# Altium schematic symbol library power_chip.SchLib: 8 symbols
Pins are listed as number, name and electrical type; pins without a type are passive.

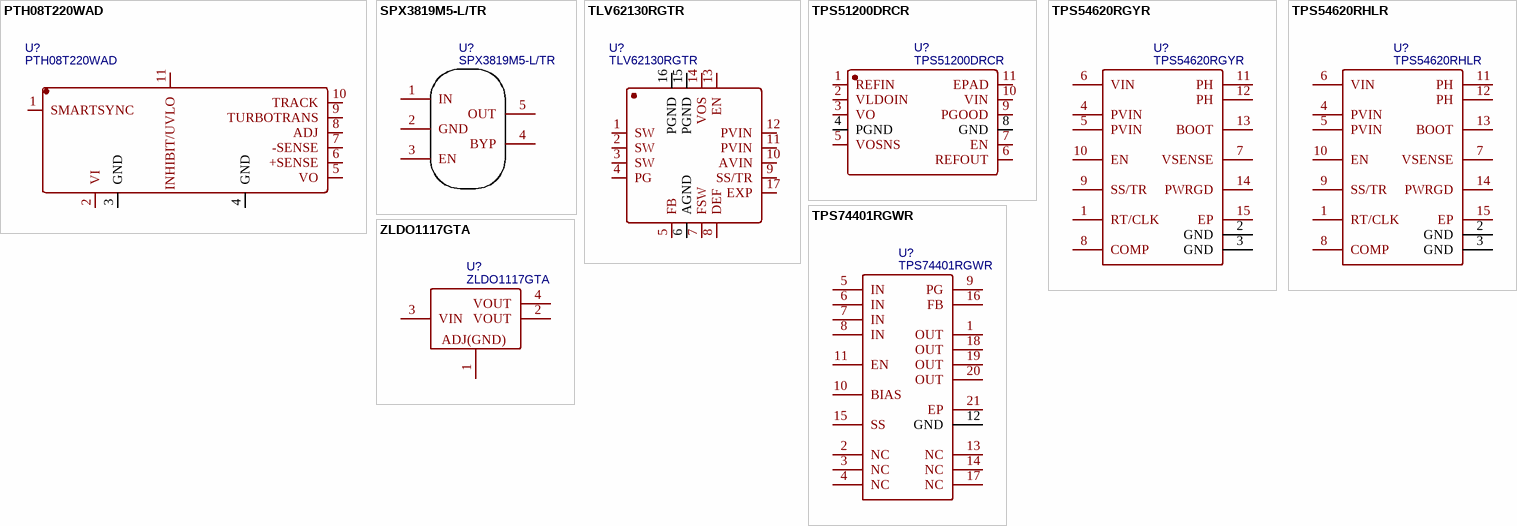
[diagram p0: symbols PTH08T220WAD to ZLDO1117GTA]

## PTH08T220WAD
designator U?
BOM_Manufacturer: Texas Instruments; Contributor: LCSC; BOM_Supplier: LCSC; BOM_Supplier Part: C79289; BOM_Manufacturer Part: PTH08T220WAD; spicePre: U; spiceSymbolName: PTH08T220WAD
footprint PWRM-TH_11P-L23.1-W19.9-P3.17
pins: 1 SMARTSYNC, 2 VI, 3 GND, 4 GND, 5 VO, 6 +SENSE, 7 -SENSE, 8 ADJ, 9 TURBOTRANS, 10 TRACK, 11 INHIBIT/UVLO

## SPX3819M5-L/TR
designator U?
BOM_Manufacturer: EXAR; SMT Type: Extend; BOM_Supplier: LCSC; BOM_Manufacturer Part: SPX3819M5-L/TR; image: //image.lceda.cn/szlcsc/C9056.jpg; BOM_Supplier Part: C9056; BOM_LCSC Assembly: Yes; spicePre: U; spiceSymbolName: SPX3819M5-L/TR
footprint SOT-23-5_L3.0-W1.7-P0.95-LS2.8-BL
pins: 1 IN, 2 GND, 3 EN, 4 BYP, 5 OUT

## TLV62130RGTR
designator U?
BOM_Manufacturer: TI; Contributor: LCSC; SMT Type: Extend; BOM_Supplier: LCSC; BOM_Manufacturer Part: TLV62130RGTR; BOM_Supplier Part: C122479; BOM_LCSC Assembly: Yes; spicePre: U; spiceSymbolName: TLV62130RGTR
footprint QFN-16_L3.0-W3.0-P0.50-TL-EP
pins: 1 SW, 2 SW, 3 SW, 4 PG, 5 FB, 6 AGND, 7 FSW, 8 DEF, 9 SS/TR, 10 AVIN, 11 PVIN, 12 PVIN, 13 EN, 14 VOS, 15 PGND, 16 PGND, 17 EXP

## TPS51200DRCR
designator U?
BOM_Manufacturer: TI; Contributor: LCSC; BOM_Supplier: LCSC; BOM_Manufacturer Part: TPS51200DRCR; BOM_Supplier Part: C34771; spicePre: U; spiceSymbolName: TPS51200DRCR
footprint WSON-10_L3.0-W3.0-P0.50-BL-EP
pins: 1 REFIN, 2 VLDOIN, 3 VO, 4 PGND, 5 VOSNS, 6 REFOUT, 7 EN, 8 GND, 9 PGOOD, 10 VIN, 11 EPAD

## TPS54620RGYR
designator U?
BOM_Manufacturer: TI; BOM_Supplier: LCSC; BOM_Manufacturer Part: TPS54620RGYR; image: //image.lceda.cn/szlcsc/C29438.jpg; BOM_Supplier Part: C29438; spicePre: U; spiceSymbolName: TPS54620RGYR
footprint VQFN-14_L3.5-W3.5-P0.50-TL-EP_TPS54622RHLT
pins: 1 RT/CLK, 2 GND, 3 GND, 4 PVIN, 5 PVIN, 6 VIN, 7 VSENSE, 8 COMP, 9 SS/TR, 10 EN, 11 PH, 12 PH, 13 BOOT, 14 PWRGD, 15 EP

## TPS54620RHLR
designator U?
BOM_Manufacturer: Texas Instruments; Contributor: LCSC; BOM_Supplier: LCSC; BOM_Supplier Part: C263274; BOM_Manufacturer Part: TPS54620RHLR; spicePre: U; spiceSymbolName: TPS54620RHLR
footprint VQFN-14_L3.5-W3.5-P0.50-TL-EP_TPS54622RHLT
pins: 1 RT/CLK, 2 GND, 3 GND, 4 PVIN, 5 PVIN, 6 VIN, 7 VSENSE, 8 COMP, 9 SS/TR, 10 EN, 11 PH, 12 PH, 13 BOOT, 14 PWRGD, 15 EP

## TPS74401RGWR
designator U?
BOM_Manufacturer: TI; Contributor: LCSC; BOM_Supplier: LCSC; BOM_Manufacturer Part: TPS74401RGWR; BOM_Supplier Part: C138728; spicePre: U; spiceSymbolName: TPS74401RGWR
footprint VQFN-20_L5.0-W5.0-P0.65-TL-EP
pins: 1 OUT, 2 NC, 3 NC, 4 NC, 5 IN, 6 IN, 7 IN, 8 IN, 9 PG, 10 BIAS, 11 EN, 12 GND, 13 NC, 14 NC, 15 SS, 16 FB, 17 NC, 18 OUT, 19 OUT, 20 OUT, 21 EP

## ZLDO1117GTA
designator U?
BOM_Manufacturer: Diodes Incorporated; Contributor: LCSC; BOM_Supplier: LCSC; BOM_Supplier Part: C443633; BOM_Manufacturer Part: ZLDO1117GTA; spicePre: U; spiceSymbolName: ZLDO1117GTA
footprint SOT-223-4_L6.5-W3.5-P2.30-LS7.0-BR
pins: 1 ADJ(GND), 2 VOUT, 3 VIN, 4 VOUT